# Altium footprint library TI Logic Gate 1.PcbLib: 39 footprints (part 3 of 3)
Each footprint in its own frame and in the unit in brackets; x right, y up, seen from the top. Pads: shape width x height; smd on the part's side, far side on the other; paste and mask are expansions set on the pad; w line width, h text height; cw(c..) or ccw(c..) is an arc to the next point about the centre after c.
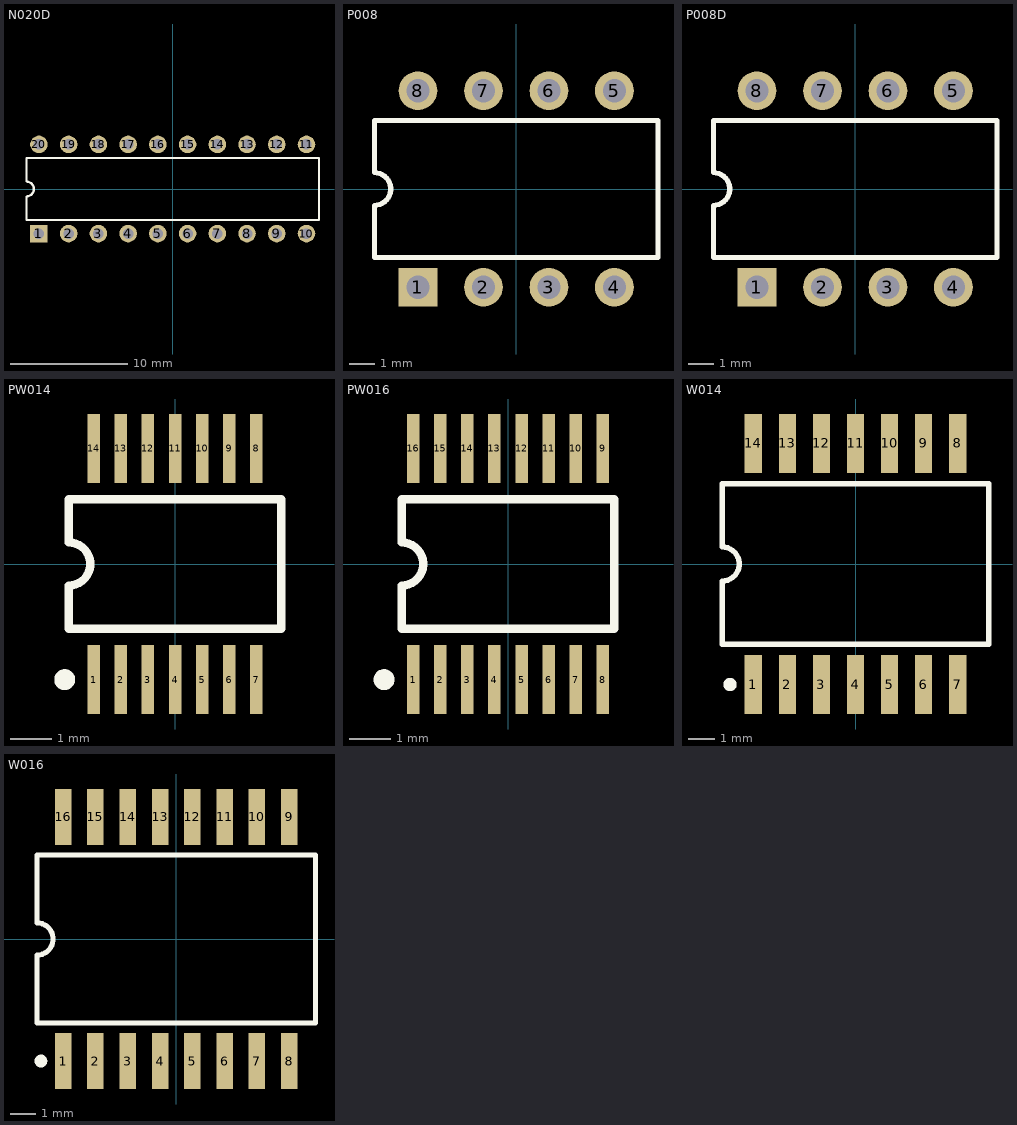
[diagram p2: the footprints below, top view; thin cyan lines are the x and y axes]

## N020D [mm] "DIP; 20 Leads; Row Spacing 7.62 mm; Pitch 2.54 mm"
height 5.08
pads (20):
  rect 1.5x1.5 hole 0.9: 1(-11.43,-3.81)
  round 1.5 hole 0.9: 2(-8.89,-3.81) 3(-6.35,-3.81) 4(-3.81,-3.81) 5(-1.27,-3.81) 6(1.27,-3.81) 7(3.81,-3.81) 8(6.35,-3.81) 9(8.89,-3.81) 10(11.43,-3.81) 11(11.43,3.81) 12(8.89,3.81) 13(6.35,3.81) 14(3.81,3.81) 15(1.27,3.81) 16(-1.27,3.81) 17(-3.81,3.81) 18(-6.35,3.81) 19(-8.89,3.81) 20(-11.43,3.81)
Top Overlay:
  lines w0.2: -12.5,-2.65 12.5,-2.65 12.5,2.65 -12.5,2.65 -12.5,0.635 cw(c-12.5,0) -12.5,-0.635 -12.5,-2.65

## P008 [mm] "DIP; 8 Leads; Row Spacing 7.62 mm; Pitch 2.54 mm"
height 5.08
pads (8):
  rect 1.5x1.5 hole 0.9: 1(-3.81,-3.81)
  round 1.5 hole 0.9: 2(-1.27,-3.81) 3(1.27,-3.81) 4(3.81,-3.81) 5(3.81,3.81) 6(1.27,3.81) 7(-1.27,3.81) 8(-3.81,3.81)
Top Overlay:
  lines w0.2: -5.5,-2.65 -5.5,-0.635 ccw(c-5.5,0) -5.5,0.635 -5.5,2.65 5.5,2.65 5.5,-2.65 -5.5,-2.65

## P008D [mm] "DIP; 8 Leads; Row Spacing 7.62 mm; Pitch 2.54 mm"
height 5.08
pads (8):
  rect 1.5x1.5 hole 0.9: 1(-3.81,-3.81)
  round 1.5 hole 0.9: 2(-1.27,-3.81) 3(1.27,-3.81) 4(3.81,-3.81) 5(3.81,3.81) 6(1.27,3.81) 7(-1.27,3.81) 8(-3.81,3.81)
Top Overlay:
  lines w0.2: -5.5,-2.65 -5.5,-0.635 ccw(c-5.5,0) -5.5,0.635 -5.5,2.65 5.5,2.65 5.5,-2.65 -5.5,-2.65

## PW014 [mm] "Shrink Small Outline; 14 Leads; Body Width 4.4 mm; Pitch 0.65 mm"
height 1.2
pads (14):
  rect 0.3x1.65 smd: 1(-1.95,-2.775) 2(-1.3,-2.775) 3(-0.65,-2.775) 4(0,-2.775) 5(0.65,-2.775) 6(1.3,-2.775) 7(1.95,-2.775) 8(1.95,2.775) 9(1.3,2.775) 10(0.65,2.775) 11(0,2.775) 12(-0.65,2.775) 13(-1.3,2.775) 14(-1.95,2.775)
Top Overlay:
  circle w0.25: c-2.65,-2.775 r0.125
  lines w0.2: -2.55,-1.55 2.55,-1.55 2.55,1.55 -2.55,1.55 -2.55,0.517 cw(c-2.55,0) -2.55,-0.517 -2.55,-1.55

## PW016 [mm] "Shrink Small Outline; 16 Leads; Body Width 4.4 mm; Pitch 0.65 mm"
height 1.2
pads (16):
  rect 0.3x1.65 smd: 1(-2.275,-2.775) 2(-1.625,-2.775) 3(-0.975,-2.775) 4(-0.325,-2.775) 5(0.325,-2.775) 6(0.975,-2.775) 7(1.625,-2.775) 8(2.275,-2.775) 9(2.275,2.775) 10(1.625,2.775) 11(0.975,2.775) 12(0.325,2.775) 13(-0.325,2.775) 14(-0.975,2.775) 15(-1.625,2.775) 16(-2.275,2.775)
Top Overlay:
  circle w0.25: c-2.975,-2.775 r0.125
  lines w0.2: -2.55,-1.55 2.55,-1.55 2.55,1.55 -2.55,1.55 -2.55,0.517 cw(c-2.55,0) -2.55,-0.517 -2.55,-1.55

## W014 [mm] "DFP; 14 Leads; Body 9.9 x 6.6 mm (LxW max); Pitch 1.27 mm"
height 2.03
pads (14):
  rect 0.65x2.2 smd: 1(-3.81,-4.5) 2(-2.54,-4.5) 3(-1.27,-4.5) 4(0,-4.5) 5(1.27,-4.5) 6(2.54,-4.5) 7(3.81,-4.5) 8(3.81,4.5) 9(2.54,4.5) 10(1.27,4.5) 11(0,4.5) 12(-1.27,4.5) 13(-2.54,4.5) 14(-3.81,4.5)
Top Overlay:
  circle w0.25: c-4.685,-4.5 r0.125
  lines w0.2: -4.975,-3 -4.975,-0.635 ccw(c-4.975,0) -4.975,0.635 -4.975,3 4.975,3 4.975,-3 -4.975,-3

## W016 [mm] "DFP; 16 Leads; Body 10.9 x 7.2 mm (LxW max); Pitch 1.27 mm"
height 2.03
pads (16):
  rect 0.65x2.2 smd: 1(-4.445,-4.8) 2(-3.175,-4.8) 3(-1.905,-4.8) 4(-0.635,-4.8) 5(0.635,-4.8) 6(1.905,-4.8) 7(3.175,-4.8) 8(4.445,-4.8) 9(4.445,4.8) 10(3.175,4.8) 11(1.905,4.8) 12(0.635,4.8) 13(-0.635,4.8) 14(-1.905,4.8) 15(-3.175,4.8) 16(-4.445,4.8)
Top Overlay:
  circle w0.25: c-5.32,-4.8 r0.125
  lines w0.2: -5.475,-3.3 5.475,-3.3 5.475,3.3 -5.475,3.3 -5.475,0.635 cw(c-5.475,0) -5.475,-0.635 -5.475,-3.3